# Altium footprint library User.PcbLib: 1 footprints
Each footprint in its own frame and in the unit in brackets; x right, y up, seen from the top. Pads: shape width x height; smd on the part's side, far side on the other; paste and mask are expansions set on the pad; w line width, h text height; cw(c..) or ccw(c..) is an arc to the next point about the centre after c.
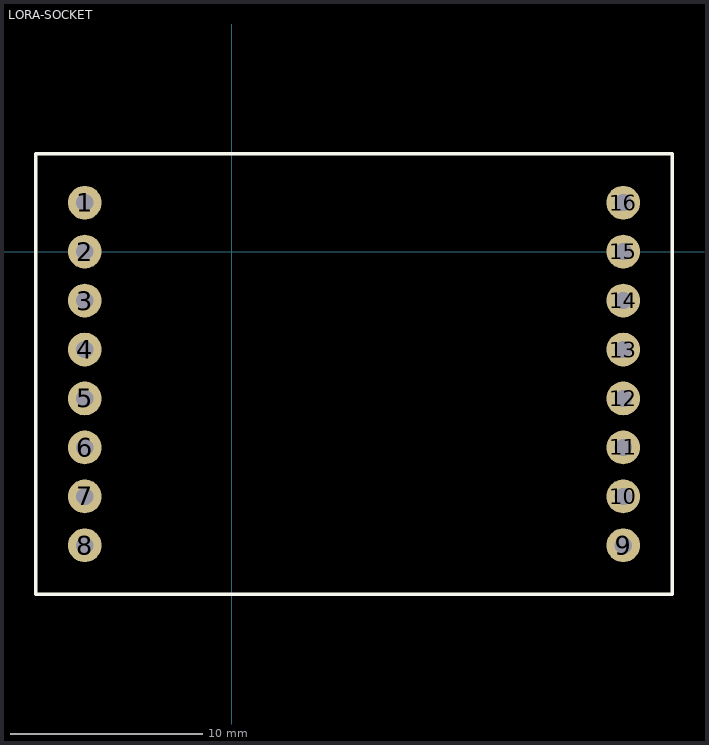
[diagram p0: the footprint, top view; thin cyan lines are the x and y axes]

## LORA-SOCKET [mil]
pads (16):
  round 69 hole 35: 1(-300,100) 2(-300,0) 3(-300,-100) 4(-300,-200) 5(-300,-300) 6(-300,-400) 7(-300,-500) 8(-300,-600) 9(800,-600) 10(800,-500) 11(800,-400) 12(800,-300) 13(800,-200) 14(800,-100) 15(800,0) 16(800,100)
Top Overlay:
  lines w7.87: -400,-700 -400,200 900,200 900,-700 -400,-700
3D body "LoRaSocket.step": height 245.98, standoff -232.42, extent -400,-700 900,200